# Altium footprint library BIG_FPGA.PcbLib: 29 footprints (part 2 of 2)
Each footprint in its own frame and in the unit in brackets; x right, y up, seen from the top. Pads: shape width x height; smd on the part's side, far side on the other; paste and mask are expansions set on the pad; w line width, h text height; cw(c..) or ccw(c..) is an arc to the next point about the centre after c.
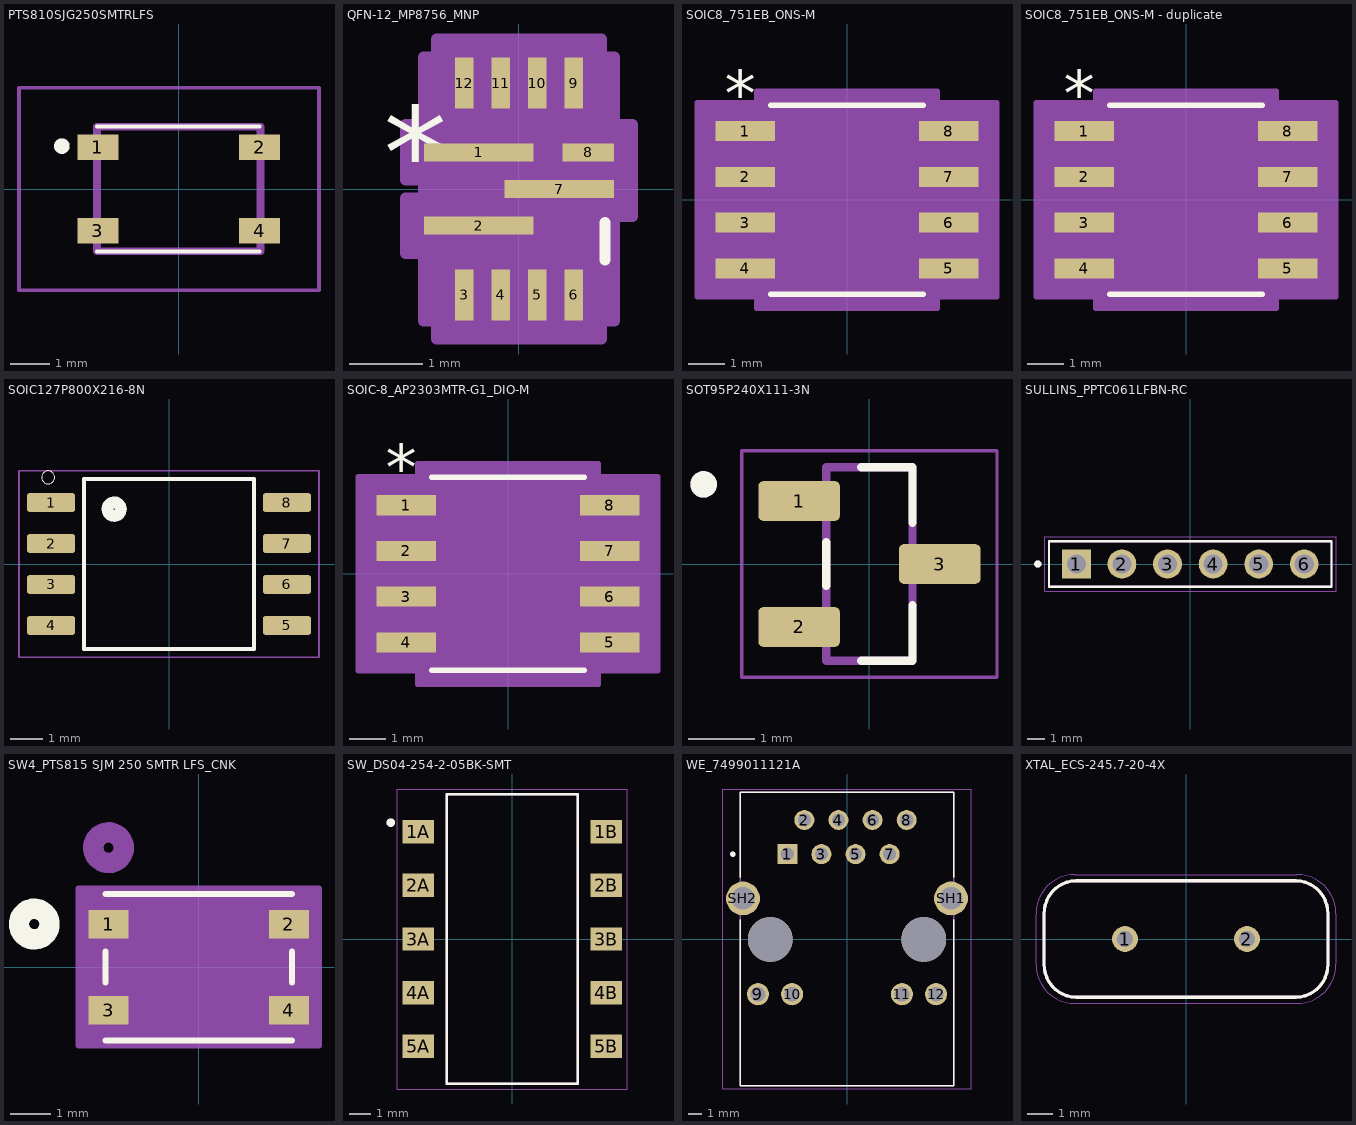
[diagram p1: the footprints below, top view; thin cyan lines are the x and y axes]

## PCBComponent_1 [mm]

## PTS810SJG250SMTRLFS [mm]
pads (4):
  rect 1.05x0.65 smd: 1(-2.075,1.075) 2(2.075,1.075) 3(-2.075,-1.075) 4(2.075,-1.075)
Top Overlay:
  lines w0.1: -2.1,-1.6 2.075,-1.6 ; -2.1,1.6 2.075,1.6
  lines w0.2: -3,1 ccw(c-3,1.1) -3,1.2 ccw(c-3,1.1) -3,1
Top 3D Body:
  lines w0.1: -4.1,-2.6 3.6,-2.6 3.6,2.6 -4.1,2.6 -4.1,-2.6
  lines w0.2: -2.1,-1.6 2.1,-1.6 2.1,1.6 -2.1,1.6 -2.1,-1.6

## QFN-12_MP8756_MNP [mm]
pads (12):
  rect 1.5x0.25 smd paste+0 mask+0: 1(-0.55,0.5) 2(-0.55,-0.5) 7(0.55,0)
  rect 0.25x0.7 smd paste+0 mask+0: 3(-0.75,-1.45) 4(-0.25,-1.45) 5(0.25,-1.45) 6(0.75,-1.45) 9(0.75,1.45) 10(0.25,1.45) 11(-0.25,1.45) 12(-0.75,1.45)
  rect 0.7x0.25 smd paste+0 mask+0: 8(0.95,0.5)
Top Overlay:
  lines w0.152: 1.181,-0.97 1.181,-0.458
  text "*" at -1.853,-0.135 h1.27
Top 3D Body:
  lines w0.025: -1.054,0.279 0.216,1.549 ; -1.054,-1.549 -1.054,1.549 1.054,1.549 1.054,-1.549 -1.054,-1.549
  text "*" at 0.118,-0.135 h1.27
Top Courtyard:
  region: -1.129,1.803 -1.308,1.803 -1.308,0.879 -1.554,0.879 -1.554,0.121 -1.308,0.121 -1.308,-0.121 -1.554,-0.121 -1.554,-0.879 -1.308,-0.879 -1.308,-1.803 -1.129,-1.803 -1.129,-2.054 1.129,-2.054 1.129,-1.803 1.308,-1.803 1.308,-0.379 1.554,-0.379 1.554,0.121 1.554,0.879 1.308,0.879 1.308,1.803 1.129,1.803 1.129,2.054 -1.129,2.054
  lines w0.152: -1.554,-0.879 -1.308,-0.879 -1.308,-1.803 -1.129,-1.803 -1.129,-2.054 1.129,-2.054 1.129,-1.803 1.308,-1.803 1.308,-0.379 1.554,-0.379 1.554,0.121 1.554,0.879 1.308,0.879 1.308,1.803 1.129,1.803 1.129,2.054 -1.129,2.054 -1.129,1.803 -1.308,1.803 -1.308,0.879 -1.554,0.879 -1.554,0.121 -1.308,0.121 -1.308,-0.121 -1.554,-0.121 -1.554,-0.879

## SOIC8_751EB_ONS-M [mil]
pads (8):
  rect 65.5x22 smd paste+0 mask+0: 1(-111.25,75) 2(-111.25,25) 3(-111.25,-25) 4(-111.25,-75) 5(111.25,-75) 6(111.25,-25) 7(111.25,25) 8(111.25,75)
Top Overlay:
  lines w6: -83.5,-103.5 83.5,-103.5 ; -83.5,103.5 83.5,103.5
  text "*" at -133.75,92 h50
Top 3D Body:
  lines w0: -12,98.5 ccw(c0,98.5) 12,98.5
  lines w1: -122,-85 -122,-65 -78.5,-65 -78.5,-85 -122,-85 ; -122,-35 -122,-15 -78.5,-15 -78.5,-35 -122,-35 ; -122,15 -122,35 -78.5,35 -78.5,15 -122,15 ; -122,65 -122,85 -78.5,85 -78.5,65 -122,65 ; -78.5,-98.5 78.5,-98.5 78.5,98.5 -78.5,98.5 -78.5,-98.5 ; 78.5,-85 78.5,-65 122,-65 122,-85 78.5,-85 ; 78.5,-35 78.5,-15 122,-15 122,-35 78.5,-35 ; 78.5,15 78.5,35 122,35 122,15 78.5,15 ; 78.5,65 78.5,85 122,85 122,65 78.5,65
  text "*" at -76,45.5 h50
Top Courtyard:
  region: -98.5,-106 -164,-106 -164,106 -98.5,106 -98.5,118.5 98.5,118.5 98.5,106 164,106 164,-106 98.5,-106 98.5,-118.5 -98.5,-118.5
  lines w6: -164,-106 -164,106 -98.5,106 -98.5,118.5 98.5,118.5 98.5,106 164,106 164,-106 98.5,-106 98.5,-118.5 -98.5,-118.5 -98.5,-106 -164,-106
3D body "SOIC8_751EB_ONS.step": height 69.09, standoff 0, extent -122.01,-98.5 122.01,98.5

## SOIC8_751EB_ONS-M - duplicate [mil]
pads (8):
  rect 65.5x22 smd paste+0 mask+0: 1(-111.25,75) 2(-111.25,25) 3(-111.25,-25) 4(-111.25,-75) 5(111.25,-75) 6(111.25,-25) 7(111.25,25) 8(111.25,75)
Top Overlay:
  lines w6: -83.5,-103.5 83.5,-103.5 ; -83.5,103.5 83.5,103.5
  text "*" at -133.75,92 h50
Top 3D Body:
  lines w0: -12,98.5 ccw(c0,98.5) 12,98.5
  lines w1: -122,-85 -78.5,-85 -78.5,-65 -122,-65 -122,-85 ; -122,-35 -78.5,-35 -78.5,-15 -122,-15 -122,-35 ; -122,15 -78.5,15 -78.5,35 -122,35 -122,15 ; -122,65 -78.5,65 -78.5,85 -122,85 -122,65 ; -78.5,-98.5 -78.5,98.5 78.5,98.5 78.5,-98.5 -78.5,-98.5 ; 78.5,-85 122,-85 122,-65 78.5,-65 78.5,-85 ; 78.5,-35 122,-35 122,-15 78.5,-15 78.5,-35 ; 78.5,15 122,15 122,35 78.5,35 78.5,15 ; 78.5,65 122,65 122,85 78.5,85 78.5,65
  text "*" at -76,45.5 h50
Top Courtyard:
  region: -98.5,-106 -164,-106 -164,106 -98.5,106 -98.5,118.5 98.5,118.5 98.5,106 164,106 164,-106 98.5,-106 98.5,-118.5 -98.5,-118.5
  lines w6: -164,-106 -98.5,-106 -98.5,-118.5 98.5,-118.5 98.5,-106 164,-106 164,106 98.5,106 98.5,118.5 -98.5,118.5 -98.5,106 -164,106 -164,-106
3D body "SOIC8_751EB_ONS.step": height 69.09, standoff 0, extent -122.01,-98.5 122.01,98.5

## SOIC127P800X216-8N [mm]
pads (8):
  rrect25% 1.49x0.58 smd: 1(-3.655,1.905) 2(-3.655,0.635) 3(-3.655,-0.635) 4(-3.655,-1.905) 5(3.655,-1.905) 6(3.655,-0.635) 7(3.655,0.635) 8(3.655,1.905)
Top Overlay:
  circle w0.152: c-1.7,1.7 r0.1
  circle w0.152: c-1.7,1.8 r0.2
  circle w0.152: c-1.7,1.7 r0.141
  circle w0.152: c-1.7,1.7 r0.224
  circle w0.152: c-1.7,1.7 r0.316
  circle w0: c-3.745,2.685 r0.2
  lines w0.127: -2.64,-2.64 -2.64,2.64 2.64,2.64 2.64,-2.64 -2.64,-2.64
Top 3D Body:
  lines w0.127: -2.64,-2.64 2.64,-2.64 ; -2.64,2.64 2.64,2.64
Top Courtyard:
  lines w0.05: -4.65,-2.89 -4.65,2.89 4.65,2.89 4.65,-2.89 -4.65,-2.89

## SOIC-8_AP2303MTR-G1_DIO-M [mil]
pads (8):
  rect 65.55x22 smd paste+0 mask+0: 1(-111.27,75) 2(-111.27,25) 3(-111.27,-25) 4(-111.27,-75) 5(111.27,-75) 6(111.27,-25) 7(111.27,25) 8(111.27,75)
Top Overlay:
  lines w6: -83.5,-105.5 83.5,-105.5 ; -83.5,105.5 83.5,105.5
  text "*" at -133.77,92 h50
Top 3D Body:
  lines w0: -12,100.5 ccw(c0,100.5) 12,100.5
  lines w1: -122.05,-85 -78.5,-85 -78.5,-65 -122.05,-65 -122.05,-85 ; -122.05,-35 -78.5,-35 -78.5,-15 -122.05,-15 -122.05,-35 ; -122.05,15 -78.5,15 -78.5,35 -122.05,35 -122.05,15 ; -122.05,65 -78.5,65 -78.5,85 -122.05,85 -122.05,65 ; -78.5,-100.5 -78.5,100.5 78.5,100.5 78.5,-100.5 -78.5,-100.5 ; 78.5,-85 122.05,-85 122.05,-65 78.5,-65 78.5,-85 ; 78.5,-35 122.05,-35 122.05,-15 78.5,-15 78.5,-35 ; 78.5,15 122.05,15 122.05,35 78.5,35 78.5,15 ; 78.5,65 122.05,65 122.05,85 78.5,85 78.5,65
  text "*" at -76,47.5 h50
Top Courtyard:
  region: -98.5,-106 -164.05,-106 -164.05,106 -98.5,106 -98.5,120.5 98.5,120.5 98.5,106 164.05,106 164.05,-106 98.5,-106 98.5,-120.5 -98.5,-120.5
  lines w6: -164.05,-106 -98.5,-106 -98.5,-120.5 98.5,-120.5 98.5,-106 164.05,-106 164.05,106 98.5,106 98.5,120.5 -98.5,120.5 -98.5,106 -164.05,106 -164.05,-106
3D body "SOIC-8_AP2303MTR-G1_DIO.step": height 69.09, standoff 0, extent -122.05,-100.51 122.05,100.51

## SOT95P240X111-3N [mm]
height 1.11
pads (3):
  rrect25% 1.23x0.6 smd: 1(-1.06,0.95) 2(-1.06,-0.95) 3(1.06,0)
Top Overlay:
  circle w0.2: c-2.5,1.2 r0.1
  lines w0.127: -0.65,-0.33 -0.65,0.33 ; -0.125,-1.46 0.65,-1.46 0.65,-0.62 ; -0.125,1.46 0.65,1.46 0.65,0.62
Top 3D Body:
  circle w0.2: c-2.5,1.2 r0.1
  lines w0.127: -0.65,-1.46 0.65,-1.46 0.65,1.46 -0.65,1.46 -0.65,-1.46
Top Courtyard:
  lines w0.05: -1.925,-1.71 -1.925,1.71 1.925,1.71 1.925,-1.71 -1.925,-1.71
3D body "step_temp.STEP": height 1.11, standoff 0, extent -1.2,-1.45 1.2,1.45

## SULLINS_PPTC061LFBN-RC [mm]
height 8.5
pads (6):
  rect 1.605x1.605 / inner round 1.605 / far side rect 1.605x1.605 hole 1.07: 1(-6.35,0)
  round 1.605 hole 1.07: 2(-3.81,0) 3(-1.27,0) 4(1.27,0) 5(3.81,0) 6(6.35,0)
Top Overlay:
  circle w0.2: c-8.5,0 r0.1
  lines w0.127: -7.87,-1.27 -7.87,1.27 7.87,1.27 7.87,-1.27 -7.87,-1.27
Top 3D Body:
  circle w0.2: c-8.5,0 r0.1
  lines w0.127: -7.87,-1.27 -7.87,1.27 7.87,1.27 7.87,-1.27 -7.87,-1.27
Top Courtyard:
  lines w0.05: -8.12,-1.52 -8.12,1.52 8.12,1.52 8.12,-1.52 -8.12,-1.52
3D body "step_temp.STEP": height 8.51, standoff -3.2, extent -7.874,-1.27 7.874,1.27

## SW4_PTS815 SJM 250 SMTR LFS_CNK [mm]
pads (4):
  rect 0.991x0.711 smd paste+0 mask+0: 1(-2.25,1.075) 2(2.25,1.075) 3(-2.25,-1.075) 4(2.25,-1.075)
Top Overlay:
  circle w0.508: c-4.102,1.075 r0.381
  lines w0.152: -2.324,-1.829 2.324,-1.829 ; -2.324,-0.387 -2.324,0.387 ; -2.324,1.829 2.324,1.829 ; 2.324,-0.387 2.324,0.387
Bottom Overlay:
  circle w0.508: c-4.102,1.075 r0.381
Top 3D Body:
  circle w0.508: c-2.25,2.98 r0.381
  lines w0.025: -2.197,-1.702 2.197,-1.702 2.197,1.702 -2.197,1.702 -2.197,-1.702
Top Courtyard:
  region: 2.999,1.956 -2.999,1.956 -2.999,-1.956 2.999,-1.956
  lines w0.152: -2.999,-1.956 -2.999,1.956 2.999,1.956 2.999,-1.956 -2.999,-1.956

## SW_DS04-254-2-05BK-SMT [mm]
height 4.86
pads (10):
  rect 1.5x1.1 smd: 1A(-4.45,5.08) 1B(4.45,5.08) 2A(-4.45,2.54) 2B(4.45,2.54) 3A(-4.45,0) 3B(4.45,0) 4A(-4.45,-2.54) 4B(4.45,-2.54) 5A(-4.45,-5.08) 5B(4.45,-5.08)
Top Overlay:
  circle w0.2: c-5.75,5.51 r0.1
  lines w0.127: -3.1,-6.85 -3.1,6.85 3.1,6.85 3.1,-6.85 -3.1,-6.85
Top 3D Body:
  circle w0.2: c-5.75,5.51 r0.1
  lines w0.127: -3.1,-6.85 -3.1,6.85 3.1,6.85 3.1,-6.85 -3.1,-6.85
Top Courtyard:
  lines w0.05: -5.45,-7.1 5.45,-7.1 5.45,7.1 -5.45,7.1 -5.45,-7.1

## WE_7499011121A [mm]
pads (16):
  rect 1.488x1.488 / inner round 1.488 / far side rect 1.488x1.488 hole 0.98: 1(-4.445,6.35)
  round 1.488 hole 0.98: 2(-3.175,8.89) 3(-1.905,6.35) 4(-0.635,8.89) 5(0.635,6.35) 6(1.905,8.89) 7(3.175,6.35) 8(4.445,8.89)
  round 1.65 hole 1.1: 9(-6.63,-4.08) 10(-4.09,-4.08) 11(4.09,-4.08) 12(6.63,-4.08)
  round 2.52 hole 1.68: SH1(7.745,3.05) SH2(-7.745,3.05)
  round 3.33 hole 3.33 unplated: ""(-5.715,0) ""(5.715,0)
Top Overlay:
  circle w0.2: c-8.5,6.35 r0.1
  lines w0.127: -7.94,1.47 -7.94,-10.89 7.94,-10.89 7.94,1.47 ; -7.94,4.63 -7.94,10.95 7.94,10.95 7.94,4.63
Top 3D Body:
  circle w0.2: c-8.5,6.35 r0.1
  lines w0.127: -7.94,-10.89 -7.94,10.95 7.94,10.95 7.94,-10.89 -7.94,-10.89
Top Courtyard:
  lines w0.05: -9.255,-11.14 9.255,-11.14 9.255,11.2 -9.255,11.2 -9.255,-11.14

## XTAL_ECS-245.7-20-4X [mm]
pads (2):
  round 1.03 hole 0.63: 1(-2.44,0) 2(2.44,0)
Top Overlay:
  lines w0.127: -5.675,-1.012 ccw(c-4.38,-1.035) -4.403,-2.33 ; -5.675,-1.01 -5.675,1.01 ; -5.675,1.012 cw(c-4.38,1.035) -4.403,2.33 ; -4.405,-2.33 4.405,-2.33 ; -4.405,2.33 4.405,2.33 ; 4.403,-2.33 ccw(c4.38,-1.035) 5.675,-1.012 ; 4.403,2.33 cw(c4.38,1.035) 5.675,1.012 ; 5.675,-1.01 5.675,1.01
Top 3D Body:
  lines w0.127: -5.675,-1.012 ccw(c-4.38,-1.035) -4.403,-2.33 ; -5.675,-1.01 -5.675,1.01 ; -5.675,1.012 cw(c-4.38,1.035) -4.403,2.33 ; -4.405,-2.33 4.405,-2.33 ; -4.405,2.33 4.405,2.33 ; 4.403,-2.33 ccw(c4.38,-1.035) 5.675,-1.012 ; 4.403,2.33 cw(c4.38,1.035) 5.675,1.012 ; 5.675,-1.01 5.675,1.01
Top Courtyard:
  lines w0.05: -6,-1.01 ccw(c-4.43,-1.01) -4.43,-2.58 4.43,-2.58 ccw(c4.43,-1.01) 6,-1.01 6,1.01 ccw(c4.43,1.01) 4.43,2.58 -4.43,2.58 ccw(c-4.43,1.01) -6,1.01 -6,-1.01